# Altium schematic symbol library connector_3pin.SchLib: 1 symbol
Pins are listed as number, name and electrical type; pins without a type are passive.

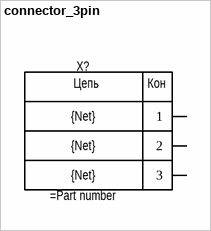
[diagram p0: symbol connector_3pin]

## connector_3pin
designator X?  Parameter 1: {Net}
Parameter 2: {Net}; Parameter 3: {Net}
pins: 1, 2, 3
text: Цепь; Кон